# EAGLE library part WM8510 (library project-specific-library)
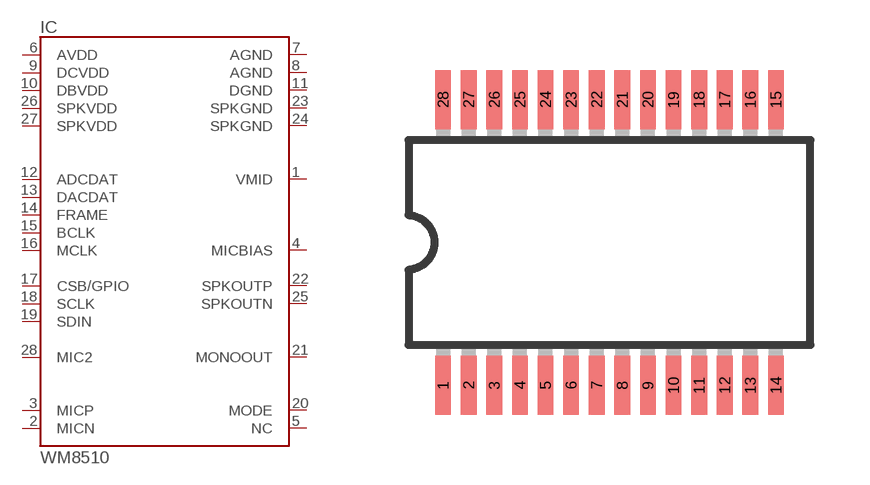
[diagram p0: symbol with the pads of SSOP28; footprint SSOP28]

Designator prefix IC

## WM8510 (OC_FARNELL: 1776254)  [SSOP28]
1  VMID
2  MICN
3  MICP
4  MICBIAS
5  NC  nc
6  AVDD  sup
7  AGND  sup
8  AGND  sup
9  DCVDD  sup
10  DBVDD  sup
11  DGND  sup
12  ADCDAT  out
13  DACDAT  in
14  FRAME
15  BCLK
16  MCLK  in
17  CSB/GPIO
18  SCLK  in
19  SDIN
20  MODE
21  MONOOUT  out
22  SPKOUTP
23  SPKGND  sup
24  SPKGND  sup
25  SPKOUTN
26  SPKVDD  sup
27  SPKVDD  sup
28  MIC2  in

## Footprint SSOP28 (pad centres in mm)
28-Lead Shrink Small Outline Package SSOP (RS-28) Source: http://www.analog.com/UploadedFiles/Data_Sheets/39677768AD7714_c.pdf
smd 0.4 x 1.5: 1 -4.225,-3.625; 2 -3.575,-3.625; 3 -2.925,-3.625; 4 -2.275,-3.625; 5 -1.625,-3.625; 6 -0.975,-3.625; 7 -0.325,-3.625; 8 0.325,-3.625; 9 0.975,-3.625; 10 1.625,-3.625; 11 2.275,-3.625; 12 2.925,-3.625; 13 3.575,-3.625; 14 4.225,-3.625; 15 4.225,3.625; 16 3.575,3.625; 17 2.925,3.625; 18 2.275,3.625; 19 1.625,3.625; 20 0.975,3.625; 21 0.325,3.625; 22 -0.325,3.625; 23 -0.975,3.625; 24 -1.625,3.625; 25 -2.275,3.625; 26 -2.925,3.625; 27 -3.575,3.625; 28 -4.225,3.625